# Altium schematic symbol library TPS22917DBVR.SchLib: 1 symbol
Pins are listed as number, name and electrical type; pins without a type are passive.

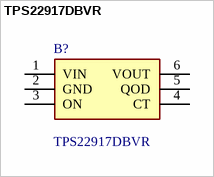
[diagram p0: symbol TPS22917DBVR]

## TPS22917DBVR
designator B?
Power Switch ICs - Power Distribution TPS22917 Ultra-Low Leakage, 5.5-V, 2-A, 80-m On-Resistance Load Switch 6-SOT-23 -40 to 125; Manufacturer_Name: Texas Instruments; Geometry.Height: 1.45mm; Mouser Part Number: 595-TPS22917DBVR; Mouser Price/Stock: https://www.mouser.co.uk/ProductDetail/Texas-Instruments/TPS22917DBVR?qs=r5DSvlrkXmI%2FDlZ5ksgkuQ%3D%3D; Manufacturer_Part_Number: TPS22917DBVR; Datasheet Link: http://www.ti.com/lit/gpn/tps22917
footprint SOT95P280X145-6N
pins: 1 VIN (power), 2 GND, 3 ON, 4 CT, 5 QOD, 6 VOUT